# EAGLE library part WE-RJ45_LAN_1000_BASET_2X_USB (library Wuerth_Elektronik_eiSos_ v6.8)
WE-RJ45LAN 10/100/1000 BaseT + USB
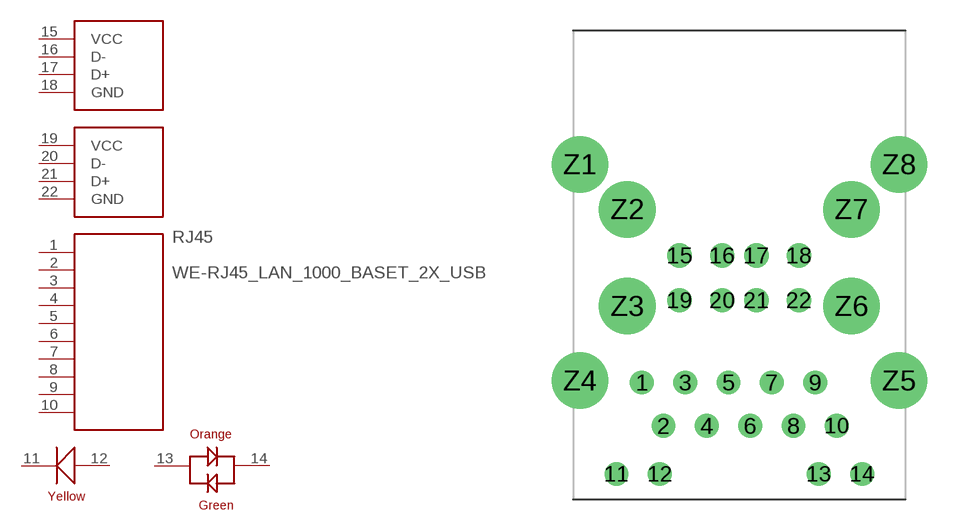
[diagram p65: symbol with the pads of WE-RJ45_LAN_10/100/1000_BASET+USB_7497110611; footprint WE-RJ45_LAN_10/100/1000_BASET+USB_7497110611]

Designator prefix RJ45

## WE-RJ45_LAN_1000_BASET_2X_USB_7497110611  [WE-RJ45_LAN_10/100/1000_BASET+USB_7497110611]
1  1  pas
2  2  pas
3  3  pas
4  4  pas
5  5  pas
6  6  pas
7  7  pas
8  8  pas
9  9  pas
10  10  pas
11  11  pas
12  12  pas
13  13  pas
14  14  pas
15  VCC  pas
16  D-  pas
17  D+  pas
18  GND  pas
19  VCC  pas
20  D-  pas
21  D+  pas
22  GND  pas

## Footprint WE-RJ45_LAN_10/100/1000_BASET+USB_7497110611 (pad centres in mm)
WE-RJ45LAN 10/100/1000 BaseT + USB
drill 0.89 round: 1 -5.715,-12.78; 2 -4.445,-15.32; 3 -3.175,-12.78; 4 -1.905,-15.32; 5 -0.635,-12.78; 6 0.635,-15.32; 7 1.905,-12.78; 8 3.175,-15.32; 9 4.445,-12.78; 10 5.715,-15.32; 11 -7.2,-18.15; 12 -4.66,-18.15; 13 4.66,-18.15; 14 7.2,-18.15
drill 0.92 round: 15 -3.5,-5.34; 16 -1,-5.34; 17 1,-5.34; 18 3.5,-5.34; 19 -3.5,-7.96; 20 -1,-7.96; 21 1,-7.96; 22 3.5,-7.96
drill 2.3 round: Z1 -9.35,0; Z2 -6.57,-2.63; Z3 -6.57,-8.31; Z4 -9.35,-12.68; Z5 9.35,-12.68; Z6 6.57,-8.31; Z7 6.57,-2.63; Z8 9.35,0